# Altium footprint library MAKO_PCB_LIB.PcbLib: 22 footprints (part 2 of 2)
Each footprint in its own frame and in the unit in brackets; x right, y up, seen from the top. Pads: shape width x height; smd on the part's side, far side on the other; paste and mask are expansions set on the pad; w line width, h text height; cw(c..) or ccw(c..) is an arc to the next point about the centre after c.
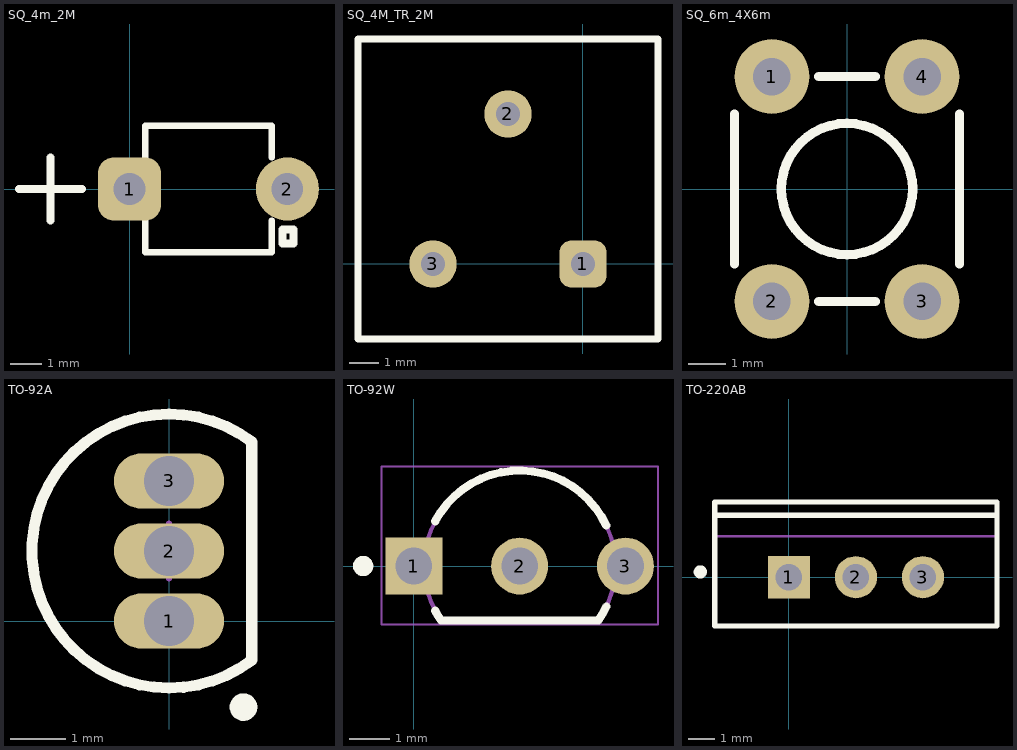
[diagram p1: the footprints below, top view; thin cyan lines are the x and y axes]

## SQ_4m_2M [mm]
height 2
pads (2):
  rrect50% 2x2 hole 1: 1(0,0)
  round 2 hole 1: 2(5,0)
Top Overlay:
  lines w0.2: 0.5,-1 0.5,-2 4.5,-2 4.5,-1 ; 0.5,1 0.5,2 4.5,2 4.5,1
  lines w0.25: -3.5,0 -1.5,0 ; -2.5,-1 -2.5,1
  lines w0.254: 4.85,-1.725 5.2,-1.725 5.2,-1.275 4.85,-1.275 4.85,-1.725

## SQ_4M_TR_2M [mm]
height 5
pads (3):
  rrect50% 1.6x1.6 hole 0.8 paste-0.1: 1(0,0)
  round 1.6 hole 0.8 paste-0.1: 2(-2.54,5.08) 3(-5.08,0)
Top Overlay:
  lines w0.25: -7.62,-2.54 2.54,-2.54 2.54,7.62 -7.62,7.62 -7.62,-2.54

## SQ_6m_4X6m [mm]
height 4
pads (4):
  round 2 hole 1 paste-0.1: 1(-2,3) 2(-2,-3) 3(2,-3) 4(2,3)
Top Overlay:
  circle w0.254: c0,0 r1.75
  lines w0.25: -3,-2 -3,2 ; -0.75,-3 0.75,-3 ; -0.75,3 0.75,3 ; 3,-2 3,2

## TO-92A [mm] "TO, Flat Index; 3 In-Line, Axial Leads; Body Dia. 4.5mm; Leads 0.51 x 0.48 mm (max)"
height 6.86
pads (3):
  oval 2x1 hole 0.9: 1(0,0) 2(0,1.27) 3(0,2.54)
Top Overlay:
  circle w0.25: c1.35,-1.56 r0.125
  lines w0.2: 1.5,-0.71 cw(c0,1.27) 1.5,3.25 1.5,-0.71
Mechanical 13:
  lines w0.1: 1.5,-0.71 cw(c0,1.27) 1.5,3.25 1.5,-0.71
Mechanical 15:
  lines w0.1: -0.5,1.27 0.5,1.27 ; 0,0.77 0,1.77
3D body: height 6.86, standoff 2.2, extent -2.485,-1.225 1.501,3.765

## TO-92W [mm] "TO, 3-Leads, Body Dia 4.7mm, Pitch 2.6mm"
height 8.923
pads (3):
  rect 1.4x1.4 hole 0.9: 1(0,0)
  round 1.4 hole 0.9: 2(2.6,0) 3(5.2,0)
Top Overlay:
  circle w0.25: c-1.25,0 r0.125
  lines w0.2: 0.523,-1.1 ccw(c2.6,0) 0.666,-1.335 4.534,-1.335 ccw(c2.6,0) 4.729,-0.994 ; 0.523,1.1 cw(c2.6,0) 4.729,0.994
Mechanical 13:
  lines w0.1: 0.666,-1.335 cw(c2.6,0) 4.534,-1.335 0.666,-1.335
Mechanical 15:
  lines w0.05: -0.8,-1.435 -0.8,2.45 6,2.45 6,-1.435 -0.8,-1.435
  lines w0.1: 2.1,0 3.1,0 ; 2.6,-0.5 2.6,0.5
3D body "PCB3.step": height 4, standoff -8.7, extent -0.236,-0.222 5.436,0.223
3D body: height 5.33, standoff 1.5, extent 0.241,-1.335 4.959,2.351

## TO-220AB [mm] "TO, Thru-Hole, Vertical, Heatsink Mounted; 3 In-Line Leads; Pitch 2.54 mm"
height 19.3
pads (3):
  rect 1.6x1.6 hole 1: 1(0,0)
  round 1.6 hole 1: 2(2.54,0) 3(5.08,0)
Top Overlay:
  circle w0.25: c-3.36,0.2 r0.125
  lines w0.2: -2.81,2.35 7.89,2.35 ; -2.81,-1.85 -2.81,2.85 7.89,2.85 7.89,-1.85 -2.81,-1.85
Mechanical 13:
  lines w0.1: -2.81,1.55 7.89,1.55 ; -2.81,-1.85 7.89,-1.85 7.89,2.85 -2.81,2.85 -2.81,-1.85
Mechanical 15:
  lines w0.1: 2.04,0 3.04,0 ; 2.54,-0.5 2.54,0.5
3D body: height 12.9, standoff 4, extent -2.86,-1.9 7.94,2.9
3D body: height 19.3, standoff 12.9, extent -2.809,1.551 7.889,2.849